# EAGLE library part TEENSY_3.5_ALL_PINS&PADS (library Teensy_3_and_LC_Series_Boards_v1.4)
All pins and pads on the Teensy 3.5 exposed. Assumes the use of multiple, unshrouded headers to get access to the pads on the underside of the Teensy These headers should be a 2x5, 2x4, and a 2x3 with a 0.1" hole spacing / pitch.
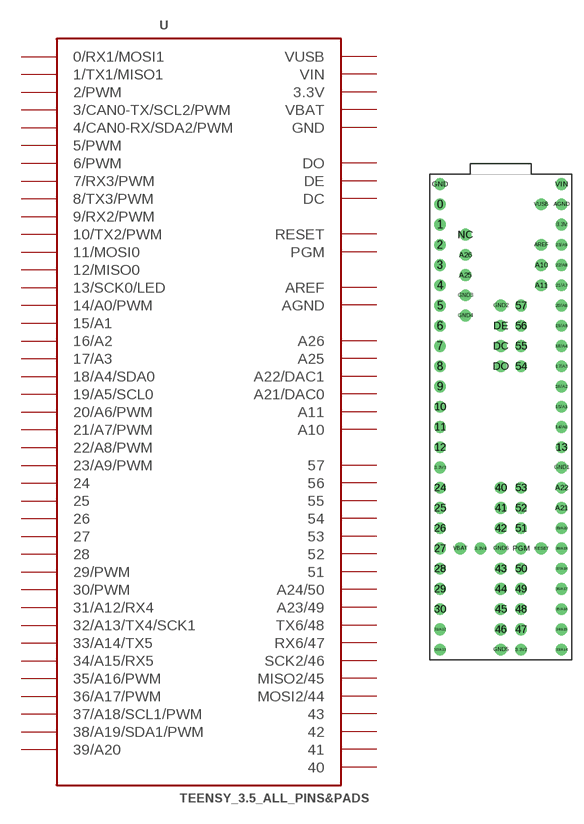
[diagram p17: symbol with the pads of TEENSY_3.5_ALL_PINS&PADS; footprint TEENSY_3.5_ALL_PINS&PADS]

Designator prefix -

## TEENSY_3.5_ALL_PINS&PADS  [TEENSY_3.5_ALL_PINS&PADS]
0  0/RX1/MOSI1
1  1/TX1/MISO1
2  2/PWM
3  3/CAN0-TX/SCL2/PWM
3.3V  3.3V  pwr
3.3V2  3.3V  pwr
3.3V3  3.3V  pwr
3.3V4  3.3V  pwr
4  4/CAN0-RX/SDA2/PWM
5  5/PWM
6  6/PWM
7  7/RX3/PWM
8  8/TX3/PWM
9  9/RX2/PWM
10  10/TX2/PWM
11  11/MOSI0
12  12/MISO0
13  13/SCK0/LED
14/A0  14/A0/PWM
15/A1  15/A1
16/A2  16/A2
17/A3  17/A3
18/A4  18/A4/SDA0
19/A5  19/A5/SCL0
20/A6  20/A6/PWM
21/A7  21/A7/PWM
22/A8  22/A8/PWM
23/A9  23/A9/PWM
24  24
25  25
26  26
27  27
28  28
29  29/PWM
30  30/PWM
31/A12  31/A12/RX4
32/A13  32/A13/TX4/SCK1
33/A14  33/A14/TX5
34/A15  34/A15/RX5
35/A16  35/A16/PWM
36/A17  36/A17/PWM
37/A18  37/A18/SCL1/PWM
38/A19  38/A19/SDA1/PWM
39/A20  39/A20
40  40
41  41
42  42
43  43
44  MOSI2/44
45  MISO2/45
46  SCK2/46
47  RX6/47
48  TX6/48
49  A23/49
50  A24/50
51  51
52  52
53  53
54  54
55  55
56  56
57  57
A10  A10
A11  A11
A21  A21/DAC0
A22  A22/DAC1
A25  A25
A26  A26
AGND  AGND  pwr
AREF  AREF  pwr
DC  DC
DE  DE
DO  DO
GND  GND  pwr
GND1  GND  pwr
GND2  GND  pwr
GND3  GND  pwr
GND4  GND  pwr
GND5  GND  pwr
GND6  GND  pwr
PGM  PGM
RESET  RESET
VBAT  VBAT  pwr
VIN  VIN  pwr
VUSB  VUSB  pwr

## Footprint TEENSY_3.5_ALL_PINS&PADS (pad centres in mm)
Outline for Teensy 3.5 and 3.6 with all Pins and Pads enabled (ouf!)
drill 0.965: 0 -7.62,13.97; 1 -7.62,11.43; 2 -7.62,8.89; 3 -7.62,6.35; 3.3V 7.62,11.43; 3.3V2 2.54,-41.91; 3.3V3 -7.62,-19.05; 3.3V4 -2.54,-29.21; 4 -7.62,3.81; 5 -7.62,1.27; 6 -7.62,-1.27; 7 -7.62,-3.81; 8 -7.62,-6.35; 9 -7.62,-8.89; 10 -7.62,-11.43; 11 -7.62,-13.97; 12 -7.62,-16.51; 13 7.62,-16.51; 14/A0 7.62,-13.97; 15/A1 7.62,-11.43; 16/A2 7.62,-8.89; 17/A3 7.62,-6.35; 18/A4 7.62,-3.81; 19/A5 7.62,-1.27; 20/A6 7.62,1.27; 21/A7 7.62,3.81; 22/A8 7.62,6.35; 23/A9 7.62,8.89; 24 -7.62,-21.59; 25 -7.62,-24.13; 26 -7.62,-26.67; 27 -7.62,-29.21; 28 -7.62,-31.75; 29 -7.62,-34.29; 30 -7.62,-36.83; 31/A12 -7.62,-39.37; 32/A13 -7.62,-41.91; 33/A14 7.62,-41.91; 34/A15 7.62,-39.37; 35/A16 7.62,-36.83; 36/A17 7.62,-34.29; 37/A18 7.62,-31.75; 38/A19 7.62,-29.21; 39/A20 7.62,-26.67; 40 0,-21.59; 41 0,-24.13; 42 0,-26.67; 43 0,-31.75; 44 0,-34.29; 45 0,-36.83; 46 0,-39.37; 47 2.54,-39.37; 48 2.54,-36.83; 49 2.54,-34.29; 50 2.54,-31.75; 51 2.54,-26.67; 52 2.54,-24.13; 53 2.54,-21.59; 54 2.54,-6.35; 55 2.54,-3.81; 56 2.54,-1.27; 57 2.54,1.27; A10 5.08,6.35; A11 5.08,3.81; A21 7.62,-24.13; A22 7.62,-21.59; A25 -4.445,5.08; A26 -4.445,7.62; AGND 7.62,13.97; AREF 5.08,8.89; DC 0,-3.81; DE 0,-1.27; DO 0,-6.35; GND -7.62,16.51; GND1 7.62,-19.05; GND2 0,1.27; GND3 -4.445,2.54; GND4 -4.445,0; GND5 0,-41.91; GND6 0,-29.21; NC -4.445,10.16; PGM 2.54,-29.21; RESET 5.08,-29.21; VBAT -5.08,-29.21; VIN 7.62,16.51; VUSB 5.08,13.97